# Altium schematic symbol library Schlib1.SchLib: 67 symbols
Pins are listed as number, name and electrical type; pins without a type are passive.

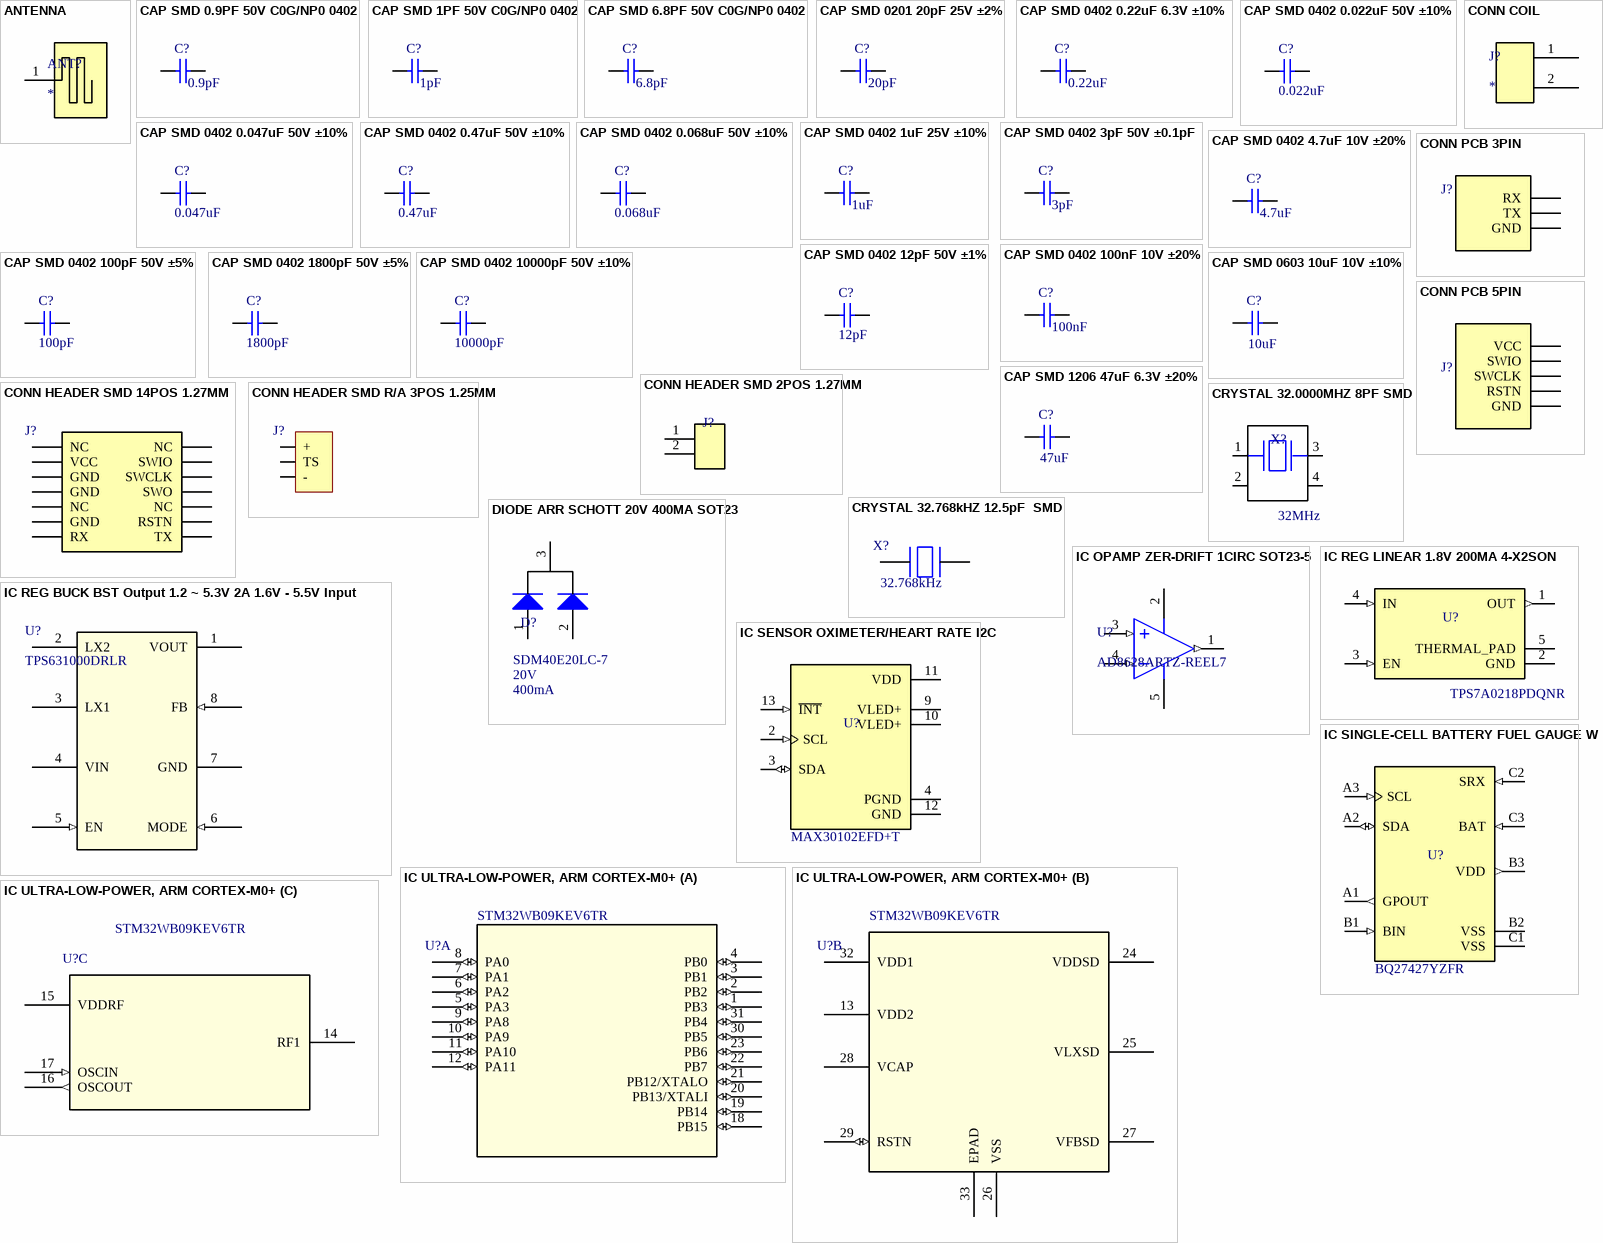
[diagram p0: symbols ANTENNA to IC ULTRA-LOW-POWER, ARM CORTEX-M0+]

## ANTENNA
designator ANT?
ANTENNA
footprint ANTENNA
pins: 1 0

## CAP SMD 0.9PF 50V C0G/NP0 0402
designator C?, comment value 0.9pF  (hidden comment: GJM1555C1HR90WB01D)
CAP CER 0.9PF 50V C0G/NP0 0402 PN: GJM1555C1HR90WB01D; TOLERANCE: 20%; SIZE: 0402; VOLTAGE: 50V; PN: GJM1555C1HR90WB01D
footprint 0402-C-R
footprint 0402-C-R - S
pins: 1, 2

## CAP SMD 1PF 50V C0G/NP0 0402
designator C?, comment value 1pF  (hidden comment: GJM1555C1HR90WB01D)
CAP CER 1PF 50V C0G/NP0 0402 PN: QSCF500Q1R0B1GV001T; TOLERANCE: 20%; SIZE: 0402; VOLTAGE: 50V; PN: QSCF500Q1R0B1GV001T
footprint 0402-C-R
footprint 0402-C-R-RF
pins: 1, 2

## CAP SMD 6.8PF 50V C0G/NP0 0402
designator C?, comment value 6.8pF  (hidden comment: GJM1555C1H6R8WB01D)
CAP SMD 6.8PF 50V C0G/NP0 0402 PN: GJM1555C1H6R8WB01D; TOLERANCE: 20%; SIZE: 0402; VOLTAGE: 50V; PN: GJM1555C1H6R8WB01D
footprint 0402-C-R
footprint 0402-C-R - S
pins: 1, 2

## CAP SMD 0201 20pF 25V ±2%
designator C?, comment value 20pF  (hidden comment: C0402C104K8RACTU)
20 pF ±2% 25V Ceramic Capacitor C0G, NP0 0201 PN: GJM0335C1E200GB01D; SIZE: 0201; VOLTAGE: 25V; TOLERANCE: 2%; PN: GJM0335C1E200GB01D
footprint 0201-C-R-RF
pins: 1, 2

## CAP SMD 0402 0.22uF 6.3V ±10%
designator C?, comment value 0.22uF  (hidden comment: C0402C104K8RACTU)
CAP SMD 0402 MLCC GERAL 0.22u 6.3V ±10% 0402 X5R PN: CC0402KRX5R5BB224; SIZE: 0402; VOLTAGE: 6.3V; TOLERANCE: 10%; PN: CC0402KRX5R5BB224
footprint 0402-C-R
footprint 0402-C-R - S
pins: 1, 2

## CAP SMD 0402 0.022uF 50V ±10%
designator C?, comment value 0.022uF  (hidden comment: GCM155R71H223KA55D)
CAP CER  0.022uF 50V X7R 0402 PN: GCM155R71H223KA55D; TOLERANCE: 10%; POWER: 50V; PN: GCM155R71H223KA55D
footprint 0402-C-R
pins: 1, 2

## CAP SMD 0402 0.047uF 50V ±10%
designator C?, comment value 0.047uF  (hidden comment: GCM155R71H473KE02D)
CAP CER  0.047uF 50V X7R 0402 PN: GCM155R71H473KE02D; TOLERANCE: 10%; POWER: 50V; PN: GCM155R71H473KE02D
footprint 0402-C-R
pins: 1, 2

## CAP SMD 0402 0.47uF 50V ±10%
designator C?, comment value 0.47uF  (hidden comment: GRM155R61H474KE11D)
CAP CER  0.47uF 50V X7R 0402 PN: GRM155R61H474KE11D; TOLERANCE: 10%; POWER: 50V; PN: GRM155R61H474KE11D
footprint 0402-C-R
pins: 1, 2

## CAP SMD 0402 0.068uF 50V ±10%
designator C?, comment value 0.068uF  (hidden comment: GCM155R71H683KE02D)
CAP CER 0.068uF 50V X7R 0402 PN: GCM155R71H683KE02D; TOLERANCE: 10%; POWER: 50V; PN: GCM155R71H683KE02D
footprint 0402-C-R
pins: 1, 2

## CAP SMD 0402 1uF 25V ±10%
designator C?, comment value 1uF  (hidden comment: GRM155R61E105KA12D)
CAP SMD 0402 MLCC GERAL 1uF 25V ±10% 0402 X5R PN:GRM155R61E105KA12D MURATA; SIZE: 0402; VOLTAGE: 25V; TOLERANCE: 10%; PN: GRM155R61E105KA12D
footprint 0402-C-R
pins: 1, 2

## CAP SMD 0402 3pF 50V ±0.1pF
designator C?, comment value 3pF  (hidden comment: C0402C104K8RACTU)
CAP CER 3PF 50V C0G/NP0 0402 PN: 0402N3R0B500CT; TOLERANCE: ±0.1pF; SIZE: 0402; VOLTAGE: 50V; PN: 0402N3R0B500CT
footprint 0402-C-R
pins: 1, 2

## CAP SMD 0402 4.7uF 10V ±20%
designator C?, comment value 4.7uF  (hidden comment: GRM155R61A475MEAAD)
CAP SMD 0402 MLCC GERAL 4.7uF 10V ±20% 0402 X5R PN:GRM155R61A475MEAAD MURATA; SIZE: 0402; VOLTAGE: 10V; TOLERANCE: 20%; PN: GRM155R61A475MEAAD
footprint 0402-C-R
pins: 1, 2

## CAP SMD 0402 12pF 50V ±1%
designator C?, comment value 12pF  (hidden comment: GCM1555C1H120FA16J)
CAP SMD CER 12pF 50V ±1% 0402 C0G,NP0 TAPE PN: GCM1555C1H120FA16J; POWER: 50V; TOLERANCE: 1%; PN: GCM1555C1H120FA16J
footprint 0402-C-R
pins: 1, 2

## CAP SMD 0402 100nF 10V ±20%
designator C?, comment value 100nF  (hidden comment: C0402C104K8RACTU)
CAP SMD 0402 MLCC GERAL 100nF 10V ±20% 0402 X7R PN:C0402C104K8RACTU KEMET; SIZE: 0402; VOLTAGE: 10V; TOLERANCE: 20%; PN: C0402C104K8RACTU
footprint 0402-C-R
footprint 0402-C-R - S
pins: 1, 2

## CAP SMD 0402 100pF 50V ±5%
designator C?, comment value 100pF  (hidden comment: GRM1555C1H101JA01D)
CAP SMD CER 100pF 50V ±5% 0402 C0G,NP0 TAPE PN: GRM1555C1H101JA01D; TOLERANCE: 1%; POWER: 50V; PN: GRM1555C1H101JA01D
footprint 0402-C-R
pins: 1, 2

## CAP SMD 0402 1800pF 50V ±5%
designator C?, comment value 1800pF  (hidden comment: GRM1555C1H182JA01D)
CAP CER 1800PF 50V C0G/NP0 0402 PN: GRM1555C1H182JA01D; TOLERANCE: 5%; POWER: 50V; PN: GRM1555C1H182JA01D
footprint 0402-C-R
pins: 1, 2

## CAP SMD 0402 10000pF 50V ±10%
designator C?, comment value 10000pF  (hidden comment: GCM155R71H103KA55D)
CAP CER 10000PF 50V X7R 0402 PN: GCM155R71H103KA55D; TOLERANCE: 10%; POWER: 50V; PN: GCM155R71H103KA55D
footprint 0402-C-R
pins: 1, 2

## CAP SMD 0603 10uF 10V ±10%
designator C?  value 10uF
CAP SMD 0603 MLCC GERAL 10uF 10V ±10% X7R PN: GRM188Z71A106KA73D; SIZE: 0603; PN: GRM188Z71A106KA73D; VOLTAGE: 10V; TOLERANCE: 10%
footprint 0603-C-R
pins: 1, 2

## CAP SMD 1206 47uF 6.3V ±20%
designator C?, comment value 47uF  (hidden comment: C3216X7S0J476M160AC)
CAP SMD 1206 MLCC GERAL 47uF 6.3V ±20% X7S PN:C3216X7S0J476M160AC; SIZE: 1206; VOLTAGE: 6.3V; TOLERANCE: 20%; PN: C3216X7S0J476M160AC
footprint 1206-C-R
pins: 1, 2

## CONN COIL
designator J?
COIL CONNECTOR
footprint CONNECTOR COIL
pins: 1, 2

## CONN HEADER SMD 2POS 1.27MM
designator J?  (value not drawn)
Connector Header Surface Mount 2 position 0.050" (1.27mm) PN: M50-3630242; MF: {'manufacturer': u'Harwin Inc.'}; Package: None; Price: None; Value: *; PN: M50-3630242; Availability: Unavailable
footprint HARWIN_M50-3630242
pins: 1, 2

## CONN HEADER SMD 14POS 1.27MM
designator J?  (value not drawn)
CONN HEADER SMD 14POS 1.27MM PN: FTSH-107-01-L-DV-K-A; MF: Samtec Inc.; Package: None; Value: *; Price: None; PN: FTSH-107-01-L-DV-K-A; SnapEDA_Link: https://www.snapeda.com/parts/FTSH-107-01-L-DV-K-A/Samtec%20Inc./view-part/2791957/?ref=snap; Availability: Bad
footprint SAMTEC_FTSH-107-01-L-DV-K-A
pins: 01 NC, 02 NC, 03 VCC, 04 SWIO, 05 GND, 06 SWCLK, 07 GND, 08 SWO, 09 NC, 10 NC, 11 GND, 12 RSTN, 13 RX, 14 TX

## CONN HEADER SMD R/A 3POS 1.25MM
designator J?, comment 10114830-11103LF  (value not drawn)
CONN HEADER SMD R/A 3POS 1.25MM; Manufacturer: Amphenol ICC; eVendor Part#: 609-10114830-11103LFCT-ND; eVendor: Digikey; eVendor Price: 0,48; MSRP: 0,27254; PN: 10114830-11103LF; MOQ: 500; NP: *
footprint BAT SMD
footprint CONNECTOR BATTERY
pins: 1 -, 2 TS, 3 +

## CONN PCB 3PIN
designator J?  (value not drawn)
footprint DEBUG CONNECTOR
pins: 1 RX, 2 TX, 3 GND

## CONN PCB 5PIN
designator J?  (value not drawn)
footprint SWD CONNECTOR
pins: 1 VCC, 2 SWIO, 3 SWCLK, 4 RSTN, 5 GND

## CRYSTAL 32.0000MHZ 8PF SMD
designator X?, comment FRQ: 32MHz  (hidden comment: ECS-320-8-37-CKM-TR3)
32 MHz ±10ppm Crystal 8pF 60 Ohms 4-SMD, No Lead PN: ECS-320-8-37-CKM-TR3; MF: Abracon LLC; Price: None; SnapEDA_Link: https://www.snapeda.com/parts/ABM12-48.000MHZ-B2X-T3/Abracon+LLC/view-part/?ref=snap; Purchase-URL: https://pricing.snapeda.com/search/part/ABM12-48.000MHZ-B2X-T3/?ref=eda; Package: SMD-4 Abracon LLC; Availability: In Stock; PN: ECS-320-8-37-CKM-TR3; Check_prices: https://www.snapeda.com/parts/ABM12-48.000MHZ-B2X-T3/Abracon+LLC/view-part/?ref=eda
footprint XTAL_ECS-320-8-37-CKM-TR3
pins: 1, 2 GND (power), 3 2, 4 GND (power)

## CRYSTAL 32.768kHZ 12.5pF  SMD
designator X?, comment value 32.768kHz  (hidden comment: ECX-.327-CDX-1293)
CRYSTAL 32.768kHZ 12.5pF  SMD; MF: ECS Inc.; PN: ECX-.327-CDX-1293; Digi-Key_Part_Number: XC2292CT-ND; Package: SMD-2 ECS International; Digi-Key_Purchase_URL: https://www.digikey.in/product-detail/en/ecs-inc/ECX-.327-CDX-1293/XC2292CT-ND/6821660?utm_source=snapeda&utm_medium=aggregator&utm_campaign=symbol; SnapEDA_Link: https://www.snapeda.com/parts/ECX-.327-CDX-1293/ECS%20Inc./view-part/1733917/?ref=snap; Parameter 1: *
footprint XTAL_ECS-.327-12.5-34RR-TR
pins: 1 P$1, 2 P$2

## DIODE ARR SCHOTT 20V 400MA SOT23
designator D?, comment VOLTAGE: 20V  CURRENT: 400mA  (hidden comment: SDM40E20LC-7)
DIODE ARR SCHOTT 20V 400MA SOT23 PN: SDM40E20LC-7; ID: 34496; PN: SDM40E20LC-7
footprint SOT23-R
pins: 1, 2, 3

## IC OPAMP ZER-DRIFT 1CIRC SOT23-5
designator U?, comment AD8628ARTZ-REEL7
IC OPAMP ZER-DRIFT 1CIRC SOT23-5 PN: AD8628ARTZ-REEL7; Mfr_Name: Analog Devices Inc; Copyright: Copyright (C) 2023 Ultra Librarian. All rights reserved.; PN: AD8628ARTZ-REEL7; RefDes: RefDes; Type: DEV
footprint RJ_5_ADI
pins: 1 OUT (out), 2 V- (power), 3 +IN (in), 4 -IN (in), 5 V+ (power)

## IC REG BUCK BST Output 1.2 ~ 5.3V 2A 1.6V - 5.5V Input
designator U?, comment TPS631000DRLR
IC REG BUCK BST Output 1.2 ~ 5.3V 2A 1.6V - 5.5V Input PN: TPS631000DRLR; Mfr_Name: Texas Instruments; RefDes: RefDes; Type: Type; PN: TPS631000DRLR
footprint TPS631000DRLR_TEX
pins: 1 VOUT (power), 2 LX2 (power), 3 LX1 (power), 4 VIN (power), 5 EN (in), 6 MODE (in), 7 GND (power), 8 FB (in)

## IC REG LINEAR 1.8V 200MA 4-X2SON
designator U?  PN: TPS7A0218PDQNR  (hidden comment: *)
Linear Voltage Regulator IC Positive Fixed 1 Output 200mA 4-X2SON (1x1); MF: {'manufacturer': u'Texas Instruments'}; Package: None; Price: None; Value: *; Availability: Unavailable
footprint IC_TPS7A0218PDQNR
pins: 1 OUT (out), 2 GND (power), 3 EN (in), 4 IN (in), 5 THERMAL_PAD (power)

## IC SENSOR OXIMETER/HEART RATE I2C
designator U?  PN: MAX30102EFD+T  (hidden comment: *)
IC SENSOR OXIMETER/HEART RATE I2C PN: MAX30102EFD+T; MF: Maxim Integrated Products; Digi-Key_Part_Number: MAX30102EFD+TTR-ND; Check_prices: https://www.snapeda.com/parts/MAX30102EFD+T/Maxim+Integrated/view-part/?ref=eda; Package: None; SnapEDA_Link: https://www.snapeda.com/parts/MAX30102EFD+T/Maxim+Integrated/view-part/?ref=snap; Value: *; Purchase-URL: https://pricing.snapeda.com/search/part/MAX30102EFD+T/?ref=eda
footprint XDCR_MAX30101EFD+
pins: 2 SCL (in), 3 SDA (io), 4 PGND (power), 9 VLED+ (power), 10 VLED+ (power), 11 VDD (power), 12 GND (power), 13 ~{INT} (in)

## IC SINGLE-CELL BATTERY FUEL GAUGE W
designator U?  PN: BQ27427YZFR  (hidden comment: *)
Battery Fuel Gauge IC Lithium Ion 9-DSBGA PN: BQ27427YZFR; MF: Texas Instruments; Availability: In Stock; Package: None; Value: *; Purchase-URL: https://pricing.snapeda.com/search/part/BQ27427YZFR/?ref=eda; SnapEDA_Link: https://www.snapeda.com/parts/BQ27427YZFR/Texas+Instruments/view-part/?ref=snap; Price: None; Check_prices: https://www.snapeda.com/parts/BQ27427YZFR/Texas+Instruments/view-part/?ref=eda
footprint IC_BQ27427YZFR
pins: A1 GPOUT (out), A2 SDA (io), A3 SCL (in), B1 BIN (in), B2 VSS (power), B3 VDD (out), C1 VSS (power), C2 SRX (in), C3 BAT (in)

## IC ULTRA-LOW-POWER, ARM CORTEX-M0+
designator U?  PN: STM32WB09KEV6TR  (hidden comment: *)
IC RF TxRx + MCU Bluetooth Bluetooth v5.4 32-VFQFN PN: STM32WB09KEV6TR; Mfr_Name: STMicroelectronics; RefDes: RefDes; Type: Type
footprint VFQFPN-32_5x5x1mm_STM
part A pins: 1 PB3 (io), 2 PB2 (io), 3 PB1 (io), 4 PB0 (io), 5 PA3 (io), 6 PA2 (io), 7 PA1 (io), 8 PA0 (io), 9 PA8 (io), 10 PA9 (io), 11 PA10 (io), 12 PA11 (io), 18 PB15 (io), 19 PB14 (io), 20 PB13/XTALI (io), 21 PB12/XTALO (io), 22 PB7 (io), 23 PB6 (io), 30 PB5 (io), 31 PB4 (io)
part B pins: 13 VDD2 (power), 24 VDDSD (power), 25 VLXSD (power), 26 VSS (power), 27 VFBSD (power), 28 VCAP (power), 29 RSTN (io), 32 VDD1 (power), 33 EPAD
part C pins: 14 RF1, 15 VDDRF (power), 16 OSCOUT (out), 17 OSCIN (in)

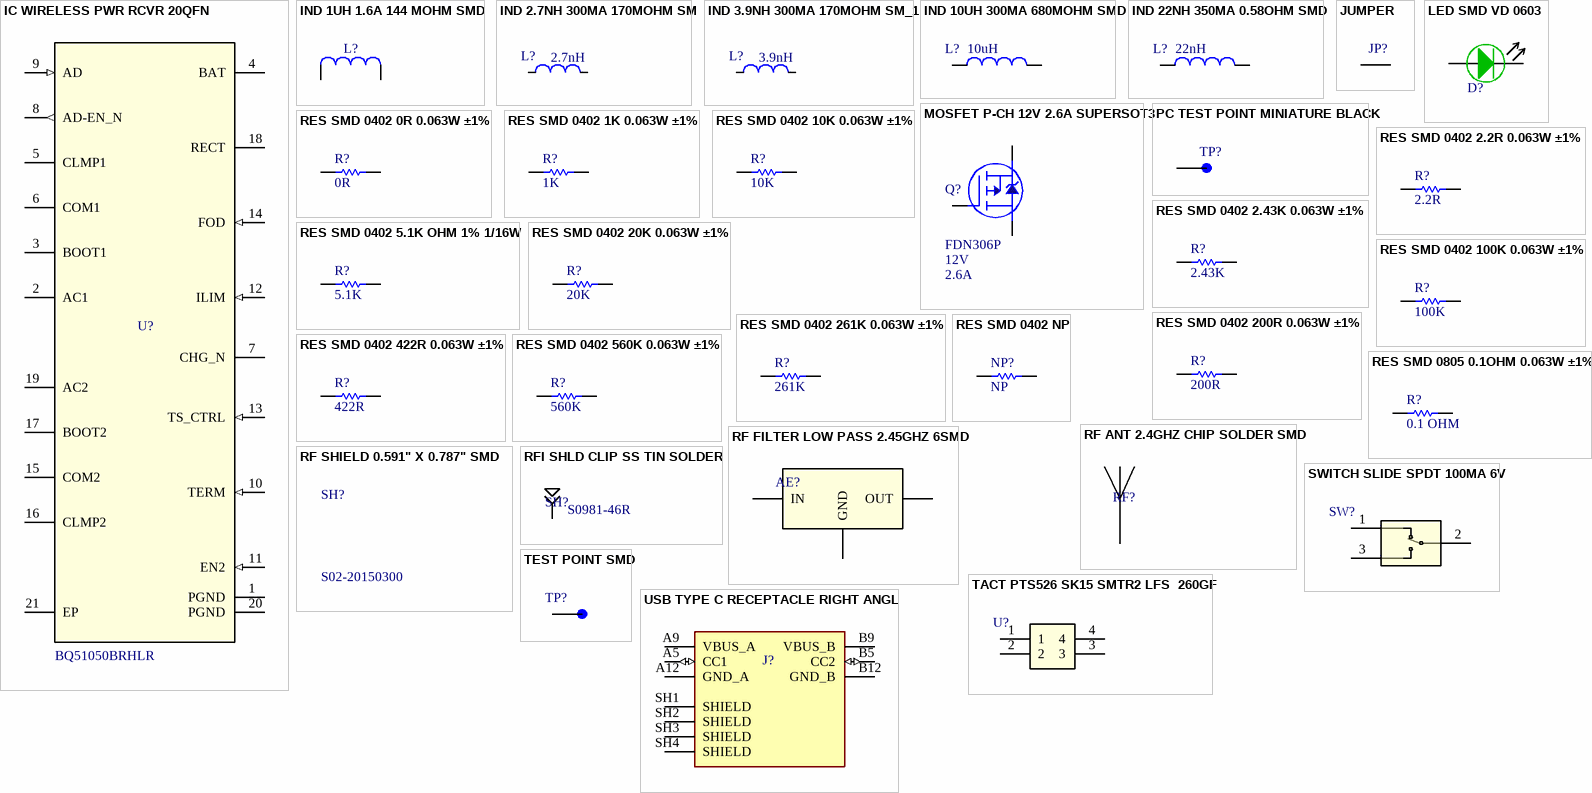
[diagram p1: symbols IC WIRELESS PWR RCVR 20QFN to USB TYPE C RECEPTACLE RIGHT ANGL]

## IC WIRELESS PWR RCVR 20QFN
designator U?, comment BQ51050BRHLR
Wireless Power Receiver PMIC 20-VQFN (3.5x4.5) PN: BQ51050BRHLR; Mfr_Name: Texas Instruments; TYPE: TYPE; RefDes: RefDes; PN: BQ51050BRHLR
footprint RHL0020A
pins: 1 PGND (power), 2 AC1 (power), 3 BOOT1, 4 BAT (power), 5 CLMP1 (oc), 6 COM1 (oc), 7 CHG_N (oc), 8 AD-EN_N (out), 9 AD (in), 10 TERM (in), 11 EN2 (in), 12 ILIM (in), 13 TS_CTRL (in), 14 FOD (in), 15 COM2 (oc), 16 CLMP2 (oc), 17 BOOT2, 18 RECT, 19 AC2 (power), 20 PGND (power), 21 EP

## IND 1UH 1.6A 144 MOHM SMD
designator L?  (value not drawn)
IND 1UH 1.6A 144 MOHM SMDPN: DFE18SAN1R0ME0L; MF: Murata Electronics; PN: DFE18SAN1R0ME0L; Package: 1608 ICS; DigiKey-Purchase-URL: https://snapeda.com/shop?store=DigiKey&id=4221634; Value: *; Mouser-Purchase-URL: https://snapeda.com/shop?store=Mouser&id=4221634; SnapEDA_Link: https://www.snapeda.com/parts/DFE18SAN1R0ME0L/Applied%20Avionics/view-part/4221634/?ref=snap; Part Number: DFE18SAN1R0ME0L
footprint INDC1608X80N
pins: 1, 2

## IND 2.7NH 300MA 170MOHM SM
designator L?  value 2.7nH  (hidden comment: *)
IND 2.7NH 300MA 170MOHM SM PN: LRC0402CS2N7GV001T; MF: Murata Electronics; PN: LRC0402CS2N7GV001T; Package: 1608 ICS; DigiKey-Purchase-URL: https://snapeda.com/shop?store=DigiKey&id=4221634; Mouser-Purchase-URL: https://snapeda.com/shop?store=Mouser&id=4221634; SnapEDA_Link: https://www.snapeda.com/parts/DFE18SAN1R0ME0L/Applied%20Avionics/view-part/4221634/?ref=snap
footprint 0402-R-L
footprint 0402-R-L -RF
pins: 1, 2

## IND 3.9NH 300MA 170MOHM SM_1
designator L?  value 3.9nH  (hidden comment: *)
IND 3.9NH 300MA 170MOHM SM PN: LRC0402CS3N9GV001T; MF: Murata Electronics; PN: LRC0402CS3N9GV001T; Package: 1608 ICS; DigiKey-Purchase-URL: https://snapeda.com/shop?store=DigiKey&id=4221634; Mouser-Purchase-URL: https://snapeda.com/shop?store=Mouser&id=4221634; SnapEDA_Link: https://www.snapeda.com/parts/DFE18SAN1R0ME0L/Applied%20Avionics/view-part/4221634/?ref=snap
footprint 0402-R-L
footprint 0402-R-L -RF
pins: 1, 2

## IND 10UH 300MA 680MOHM SMD
designator L?  IND: 10uH  (hidden comment: *)
FIXED IND 10UH 300MA 680MOHM SMDPN: MLZ2012M100HT000; Part Number: DFE18SAN1R0ME0L; MF: Murata Electronics; PN: MLZ2012M100HT000; Package: 1608 ICS; DigiKey-Purchase-URL: https://snapeda.com/shop?store=DigiKey&id=4221634; Value: *; Mouser-Purchase-URL: https://snapeda.com/shop?store=Mouser&id=4221634; SnapEDA_Link: https://www.snapeda.com/parts/DFE18SAN1R0ME0L/Applied%20Avionics/view-part/4221634/?ref=snap
footprint 0805-R-L
pins: 1, 2

## IND 22NH 350MA 0.58OHM SMD
designator L?  IND: 22nH  (hidden comment: *)
IND 22NH 350MA 0.58OHM SMD PN: LQG15HN22NJ02D; Part Number: DFE18SAN1R0ME0L; MF: Murata Electronics; PN: LQG15HN22NJ02D; Package: 1608 ICS; DigiKey-Purchase-URL: https://snapeda.com/shop?store=DigiKey&id=4221634; Value: *; Mouser-Purchase-URL: https://snapeda.com/shop?store=Mouser&id=4221634; SnapEDA_Link: https://www.snapeda.com/parts/DFE18SAN1R0ME0L/Applied%20Avionics/view-part/4221634/?ref=snap
footprint 0402-R-L
pins: 1, 2

## JUMPER
designator JP?  (value not drawn)  (net tie, no BOM)
footprint JUMPER
pins: 1 0, 2 1

## LED SMD VD 0603
designator D?, comment 150060GS75000  (value not drawn)
LED SMD VD ALTO BRILHO 1,6x0,8x0,8mm 430mcd PN:150060GS75000 0603 WURTH; ID: ?; PN: 150060GS75000
footprint LED0603
pins: 1 K, 2 A

## MOSFET P-CH 12V 2.6A SUPERSOT3
designator Q?, comment VOLTAGE: 12V  CURRENT: 2.6A  (hidden comment: FDN306P)
MOSFET P-CH 12V 2.6A SUPERSOT3 PN: FDN306P; ID: 37943; PN: FDN306P
footprint SOT23-R
pins: 1 Gate, 2 Source, 3 Drain

## PC TEST POINT MINIATURE BLACK
designator TP?, comment 5001  (value not drawn)
PC TEST POINT MINIATURE BLACK PN: 5001; MF: Keystone Electronics Corp.; SnapEDA_Link: https://www.snapeda.com/parts/5001/Keystone+Electronics/view-part/?ref=snap; Package: None; Value: *; PN: 5001; Check_prices: https://www.snapeda.com/parts/5001/Keystone+Electronics/view-part/?ref=eda
footprint KEYSTONE_5001
pins: 1 TP

## RES SMD 0402 0R 0.063W ±1%
designator R?, comment value 0R  (hidden comment: RMCF0402ZT0R00)
RES SMD GERAL FILM 0R 0.063W ±1% 0402 7" TAPE PN: RMCF0402ZT0R00 STACKPOLE; PACK: 0402; TOLERANCE: 1%; POWER: 0.063W; PN: RMCF0402ZT0R00
footprint 0402-R-R
pins: 1, 2

## RES SMD 0402 1K 0.063W ±1%
designator R?, comment value 1K  (hidden comment: RMCF0402FT1K00)
RES SMD GERAL FILM 1K 0.063W ±1% 0402 7" TAPE PN: RMCF0402FT1K00 STACKPOLE; PACK: 0402; TOLERANCE: 1%; POWER: 0.063W; PN: RMCF0402FT1K00
footprint 0402-R-R
pins: 1, 2

## RES SMD 0402 2.2R 0.063W ±1%
designator R?, comment value 2.2R  (hidden comment: RC0402FR-072R2L)
RES SMD GERAL FILM 2.2R 0.063W ±1% 0402 7" TAPE PN: RC0402FR-072R2L; PACK: 0402; POWER: 0.063W; TOLERANCE: 1%; PN: RC0402FR-072R2L
footprint 0402-R-R
pins: 1, 2

## RES SMD 0402 2.43K 0.063W ±1%
designator R?, comment value 2.43K  (hidden comment: RMCF0402FT2K43)
RES SMD GERAL FILM 2.43K 0.063W ±1% 0402 7" TAPE PN: RMCF0402FT2K43 STACKPOLE; PACK: 0402; POWER: 0.063W; TOLERANCE: 1%; PN: RMCF0402FT2K43
footprint 0402-R-R
pins: 1, 2

## RES SMD 0402 5.1K OHM 1% 1/16W
designator R?, comment value 5.1K  (hidden comment: RMCF0402FT5K10)
RES SMD 0402 5.1K OHM 1% 1/16W 0402 PN: RMCF0402FT5K10; PACK: 0402; TOLERANCE: 0.1%; POWER: 0.063W; PN: RMCF0402FT5K10
footprint 0402-R-R
pins: 1, 2

## RES SMD 0402 10K 0.063W ±1%
designator R?, comment value 10K  (hidden comment: RMCF0402FT10K0)
RES SMD GERAL FILM 10K 0.063W ±1% 0402 7" TAPE PN: RMCF0402FT10K0 STACKPOLE; PACK: 0402; POWER: 0.063W; TOLERANCE: 1%; PN: RMCF0402FT10K0
footprint 0402-R-R
pins: 1, 2

## RES SMD 0402 20K 0.063W ±1%
designator R?, comment value 20K  (hidden comment: RMCF0402FT20K0)
RES SMD GERAL FILM 20K 0.063W ±1% 0402 7" TAPE PN: RMCF0402FT20K0 STACKPOLE; PACK: 0402; POWER: 0.063W; TOLERANCE: 1%; PN: RMCF0402FT20K0
footprint 0402-R-R
pins: 1, 2

## RES SMD 0402 100K 0.063W ±1%
designator R?, comment value 100K  (hidden comment: RMCF0402FT100K)
RES SMD GERAL FILM 100K 0.063W ±1% 0402 7" TAPE PN: RMCF0402FT100K; PACK: 0402; POWER: 0.063W; TOLERANCE: 1%; PN: RMCF0402FT100K
footprint 0402-R-R
pins: 1, 2

## RES SMD 0402 200R 0.063W ±1%
designator R?, comment value 200R  (hidden comment: RMCF0402JT200R)
RES SMD GERAL FILM 200R 0.063W ±1% 0402 7" TAPE PN: RMCF0402JT200R STACKPOLE; PACK: 0402; POWER: 0.063W; TOLERANCE: 1%; PN: RMCF0402JT200R
footprint 0402-R-R
pins: 1, 2

## RES SMD 0402 261K 0.063W ±1%
designator R?, comment value 261K  (hidden comment: RMCF0402FT261K)
RES SMD GERAL FILM 261K 0.063W ±1% 0402 7" TAPE PN: RMCF0402FT261K STACKPOLE; PACK: 0402; POWER: 0.063W; TOLERANCE: 1%; PN: RMCF0402FT261K
footprint 0402-R-R
pins: 1, 2

## RES SMD 0402 422R 0.063W ±1%
designator R?, comment value 422R  (hidden comment: RMCF0402FT422R)
RES SMD GERAL FILM 422R 0.063W ±1% 0402 7" TAPE PN: RMCF0402FT422R STACKPOLE; PACK: 0402; POWER: 0.063W; TOLERANCE: 1%; PN: RMCF0402FT422R
footprint 0402-R-R
pins: 1, 2

## RES SMD 0402 560K 0.063W ±1%
designator R?, comment value 560K  (hidden comment: RC0402FR-07560KL)
RES SMD GERAL FILM 560K 0.063W ±1% 0402 7" TAPE PN: RC0402FR-07560KL; PACK: 0402; TOLERANCE: 1%; POWER: 0.063W; PN: RC0402FR-07560KL
footprint 0402-R-R
pins: 1, 2

## RES SMD 0402 NP
designator NP?, comment NP
RES SMD 0402 NP; PACK: 0402; VALUE: NP
footprint 0402-R-NP
pins: 1, 2

## RES SMD 0805 0.1OHM 0.063W ±1%
designator R?, comment value 0.1 OHM  (hidden comment: CRL0805-FW-R100ELF)
RES SMD GERAL FILM 0.1R 0.063W ±1% 0805 7" TAPE PN: CRL0805-FW-R100ELF; PACK: 0805; TOLERANCE: 1%; POWER: 0.063W; PN: CRL0805-FW-R100ELF
footprint 0805-R-R
pins: 1, 2

## RF ANT 2.4GHZ CHIP SOLDER SMD
designator RF?  (value not drawn)
2.4GHz Chip RF Antenna 2.4GHz ~ 2.5GHz 0.5dBi Solder Surface Mount PN: 2450AT18A0100001E; MF: Johanson; SnapEDA_Link: https://www.snapeda.com/parts/2450AT18A0100001E/AN/view-part/?ref=snap; Package: None; Value: *; PN: 2450AT18A0100001E; Check_prices: https://www.snapeda.com/parts/2450AT18A0100001E/AN/view-part/?ref=eda
footprint XCVR_2450AT18A0100001E
pins: 1

## RF FILTER LOW PASS 2.45GHZ 6SMD
designator AE?  (value not drawn)
2.45GHz Center Frequency Low Pass RF Filter (Radio Frequency) 100MHz Bandwidth 1.1dB 6-SMD, No Lead PN: MLPF-WB55-01E3; Mfr_Name: STMicroelectronics; RefDes: RefDes; Type: Type; PN: MLPF-WB55-01E3
footprint MLPF-WB55-01E3_STM
pins: 1 OUT, 2,4,5,6 GND (power), 3 IN

## RF SHIELD 0.591" X 0.787" SMD
designator SH?, comment S02-20150300
RF Shield CAN 0.591" (15.00mm) X 0.787" (20.00mm) Non-Vented Surface Mount; PN: S02-20150300
footprint shield

## RFI SHLD CLIP SS TIN SOLDER
designator SH?, comment S0981-46R
RFI SHLD CLIP SS TIN SOLDER; PN: S0981-46R
footprint CONN_SHIELD
pins: 1

## SWITCH SLIDE SPDT 100MA 6V
designator SW?, comment CJS-1200TB  (value not drawn)
SWITCH SLIDE SPDT 100MA 6V PN: CJS-1200TB; Mfr_Name: Nidec Copal Electronics; Type: Slide Switches; RefDes: RefDes; PN: CJS-1200TB
footprint CJS-1200B_NDC
pins: 1, 2, 3

## TACT PTS526 SK15 SMTR2 LFS  260GF
designator U?, comment PTS526 SK15 SMTR2 LFS  (value not drawn)
TACT PTS526 SK15 SMTR2 LFS  260GF PN: PTS526 SK15 SMTR2 LFS; Built_By: EMA_Matt; Vendor: C&K; SourceLibrary: C&K_2019-11-15; PN: PTS526 SK15 SMTR2 LFS; Copyright: Copyright (C) 2018 Accelerated Designs. All rights reserved; RefDes: RefDes; Type: DEV; Value: Value
footprint SMT_FS
pins: 1, 2, 3, 4

## TEST POINT SMD
designator TP?  (value not drawn)
footprint TP SMD
pins: 1 TP

## USB TYPE C RECEPTACLE RIGHT ANGL
designator J?, comment 10164359-00011LF  (value not drawn)
USB TYPE C RECEPTACLE RIGHT ANGL PN: 10164359-00011LF; MF: {'manufacturer': u'Amphenol ICC (FCI)'}; Package: None; Price: None; Value: *; PN: 10164359-00011LF; Availability: Unavailable
footprint AMPHENOL_10164359-00011LF
pins: A5 CC1 (io), A9 VBUS_A (power), A12 GND_A (power), B5 CC2 (io), B9 VBUS_B (power), B12 GND_B (power), SH1 SHIELD, SH2 SHIELD, SH3 SHIELD, SH4 SHIELD